# EAGLE library part MCP23008-E/ML (library MCP23008-E_ML)
MCP23008 Series 5.5 V 1.7 MHz 8-Bit I/O Expander with Serial Interface - QFN-20
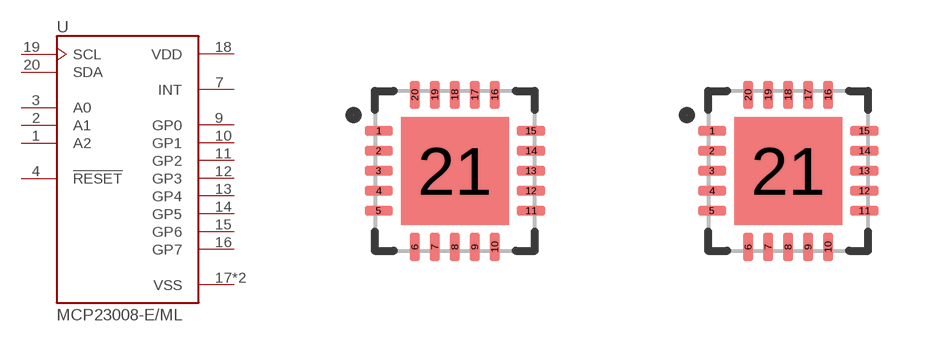
[diagram p0: symbol with the pads of QFN21P50_400X400X100L40X24T270N; footprints QFN21P50_400X400X100L40X24T270N, QFN21P50_400X400X100L40X24T270N-DNP]

Designator prefix U

## MCP23008-E/ML (AVAILABILITY: Unavailable; DESCRIPTION: MCP23008 Series 5.5 V 1.7 MHz 8-Bit I/O Expander with Serial Interface - QFN-20; MF: Microchip; MP: MCP23008-E/ML; PACKAGE: QFN-20 Microchip; PRICE: None)  [QFN21P50_400X400X100L40X24T270N]
1  A2
2  A1  in
3  A0  in
4  !RESET  in
7  INT  out
9  GP0
10  GP1
11  GP2
12  GP3
13  GP4
14  GP5
15  GP6
16  GP7
17  VSS  pwr
18  VDD  pwr
19  SCL  in
20  SDA
21  VSS  pwr

## MCP23008-E/MLDNP  [QFN21P50_400X400X100L40X24T270N-DNP]
Pads as for QFN21P50_400X400X100L40X24T270N

## Footprint QFN21P50_400X400X100L40X24T270N (pad centres in mm)
smd 0.71 x 0.26: 1 -1.905,1; 2 -1.905,0.5; 3 -1.905,0; 4 -1.905,-0.5; 5 -1.905,-1; 11 1.905,-1; 12 1.905,-0.5; 13 1.905,0; 14 1.905,0.5; 15 1.905,1
smd 0.26 x 0.71: 6 -1,-1.905; 7 -0.5,-1.905; 8 0,-1.905; 9 0.5,-1.905; 10 1,-1.905; 16 1,1.905; 17 0.5,1.905; 18 0,1.905; 19 -0.5,1.905; 20 -1,1.905
smd 2.7 x 2.7: 21 0,0

## Footprint QFN21P50_400X400X100L40X24T270N-DNP (pad centres in mm)
smd 0.71 x 0.26: 1 -1.905,1; 2 -1.905,0.5; 3 -1.905,0; 4 -1.905,-0.5; 5 -1.905,-1; 11 1.905,-1; 12 1.905,-0.5; 13 1.905,0; 14 1.905,0.5; 15 1.905,1
smd 0.26 x 0.71: 6 -1,-1.905; 7 -0.5,-1.905; 8 0,-1.905; 9 0.5,-1.905; 10 1,-1.905; 16 1,1.905; 17 0.5,1.905; 18 0,1.905; 19 -0.5,1.905; 20 -1,1.905
smd 2.7 x 2.7: 21 0,0